# Altium footprint library USB, DVI, HDMI Connectors.PcbLib: 1 footprints
Each footprint in its own frame and in the unit in brackets; x right, y up, seen from the top. Pads: shape width x height; smd on the part's side, far side on the other; paste and mask are expansions set on the pad; w line width, h text height; cw(c..) or ccw(c..) is an arc to the next point about the centre after c.
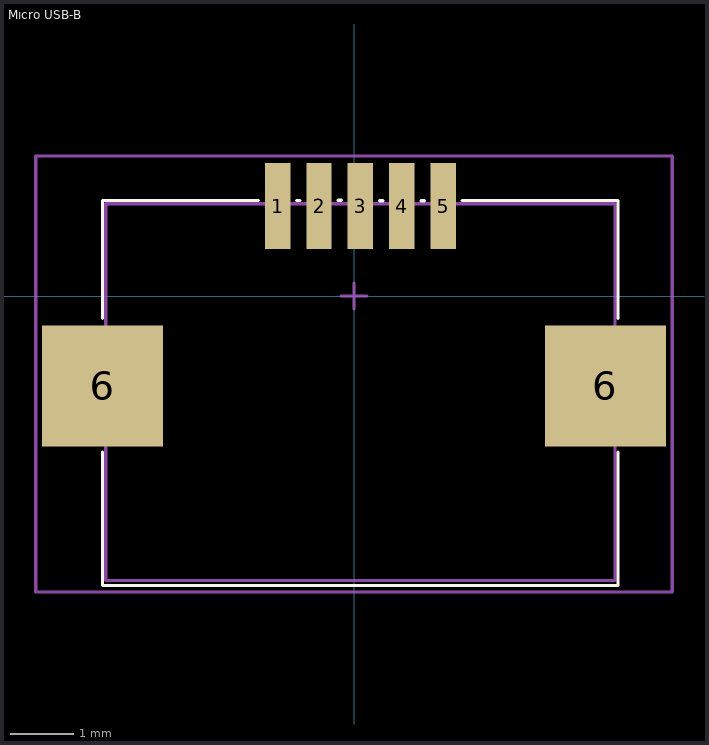
[diagram p0: the footprint, top view; thin cyan lines are the x and y axes]

## Mıcro USB-B [mm] "Distance Between Pins 0.65mm"
pads (7):
  rect 0.4x1.35 smd mask+0.05: 1(-1.2,1.413) 2(-0.55,1.413) 3(0.1,1.413) 4(0.75,1.413) 5(1.4,1.413)
  rect 1.9x1.9 smd mask+0.05: 6(-3.95,-1.412) 6(3.95,-1.412)
Top Overlay:
  lines w0.05: -3.95,-2.45 -3.95,-4.55 4.15,-4.55 4.15,-2.45 ; -3.95,-0.35 -3.95,1.5 -1.5,1.5 ; -0.9,1.5 -0.85,1.5 ; -0.249,1.504 -0.199,1.504 ; 0.404,1.499 0.454,1.499 ; 1.054,1.496 1.104,1.496 ; 1.7,1.5 4.15,1.5 4.15,-0.35
Top 3D Body:
  lines w0.05: -3.9,-4.472 -3.9,1.45 4.1,1.45 4.1,-4.472 -3.9,-4.472
Top Component Center:
  lines w0.05: -0.2,0 0.2,0 ; 0,-0.2 0,0.2 ; -5,-4.65 -5,2.2 5,2.2 5,-4.65 -5,-4.65
Top Designator:
  lines w0.05: -5,-4.65 -5,2.2 5,2.2 5,-4.65 -5,-4.65
  text ".Designator" at -0.799,-0.167 h0.5
3D body "629105136821.stp": height 2.78, standoff -0.58, extent -3.9,-4.473 4.1,1.45